# Altium integrated library Galvanic_Transformator.IntLib: 1 symbol
Pins are listed as number, name and electrical type; pins without a type are passive.

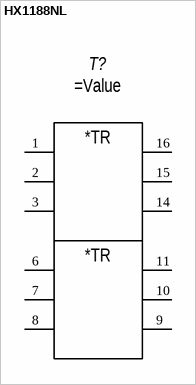
[diagram p0: symbol HX1188NL]

## HX1188NL
designator T?  (value not drawn)
HelpURL: *; Manufacturer: *; Value: =Value
pins: 1, 2, 3, 6, 7, 8, 9, 10, 11, 14, 15, 16
text: *TR